# Altium schematic symbol library SCH - MCU - NUVOTON - NUVOTON M0A23OC1AC.SchLib: 1 symbol
Pins are listed as number, name and electrical type; pins without a type are passive.

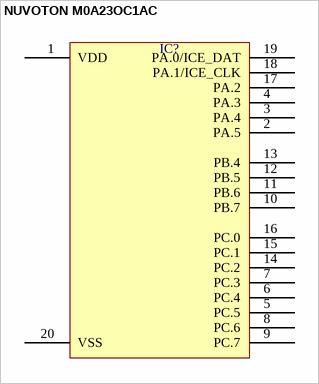
[diagram p0: symbol NUVOTON M0A23OC1AC]

## NUVOTON M0A23OC1AC
designator IC?  (value not drawn)
pins: 1 VDD, 2 PA.5, 3 PA.4, 4 PA.3, 5 PC.5, 6 PC.4, 7 PC.3, 8 PC.6, 9 PC.7, 10 PB.7, 11 PB.6, 12 PB.5, 13 PB.4, 14 PC.2, 15 PC.1, 16 PC.0, 17 PA.2, 18 PA.1/ICE_CLK, 19 PA.0/ICE_DAT, 20 VSS